# Altium footprint library selector.PcbLib: 1 footprints
Each footprint in its own frame and in the unit in brackets; x right, y up, seen from the top. Pads: shape width x height; smd on the part's side, far side on the other; paste and mask are expansions set on the pad; w line width, h text height; cw(c..) or ccw(c..) is an arc to the next point about the centre after c.
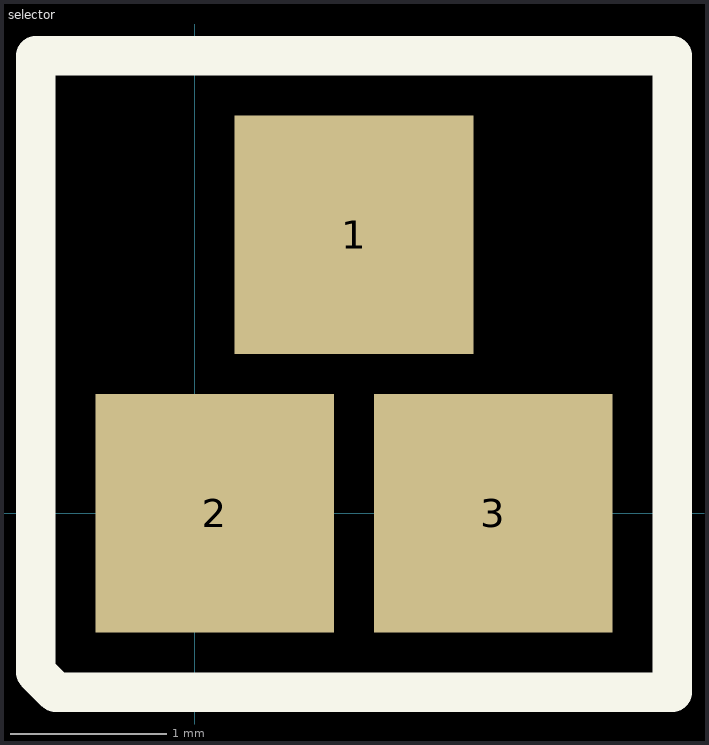
[diagram p0: the footprint, top view; thin cyan lines are the x and y axes]

## selector [mil]
pads (3):
  rect 60x60 smd: 1(40,70) 2(5,0) 3(75,0)
Top Overlay:
  lines w10: -40,-40 -35,-45 120,-45 120,115 -40,115 -40,-40